# Altium footprint library STM32_Forest_S1.PcbLib: 1 footprints
Each footprint in its own frame and in the unit in brackets; x right, y up, seen from the top. Pads: shape width x height; smd on the part's side, far side on the other; paste and mask are expansions set on the pad; w line width, h text height; cw(c..) or ccw(c..) is an arc to the next point about the centre after c.
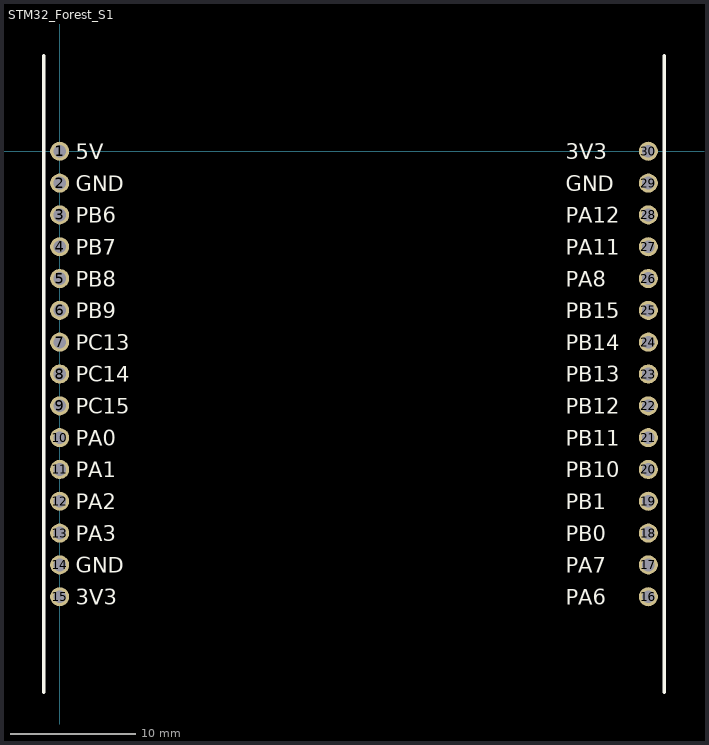
[diagram p0: the footprint, top view; thin cyan lines are the x and y axes]

## STM32_Forest_S1 [mil]
pads (30):
  round 60 hole 40: 1(0,0) 2(0,-100) 3(0,-200) 4(0,-300) 5(0,-400) 6(0,-500) 7(0,-600) 8(0,-700) 9(0,-800) 10(0,-900) 11(0,-1000) 12(0,-1100) 13(0,-1200) 14(0,-1300) 15(0,-1400) 16(1850,-1400) 17(1850,-1300) 18(1850,-1200) 19(1850,-1100) 20(1850,-1000) 21(1850,-900) 22(1850,-800) 23(1850,-700) 24(1850,-600) 25(1850,-500) 26(1850,-400) 27(1850,-300) 28(1850,-200) 29(1850,-100) 30(1850,0)
Top Overlay:
  lines w10: -50,-1700 -50,0 -50,300 ; 1900,-1700 1900,300
  text "5V" at 50,-25 h48
  text "GND" at 50,-125 h48
  text "PB6" at 50,-225 h48
  text "PB7" at 50,-325 h48
  text "PB8" at 50,-425 h48
  text "PB9" at 50,-525 h48
  text "PC13" at 50,-625 h48
  text "PC14" at 50,-725 h48
  text "PC15" at 50,-825 h48
  text "PA0" at 50,-925 h48
  text "PA1" at 50,-1025 h48
  text "PA2" at 50,-1125 h48
  text "PA3" at 50,-1225 h48
  text "GND" at 50,-1325 h48
  text "3V3" at 50,-1425 h48
  text "PA6" at 1590,-1425 h48
  text "PA7" at 1590,-1325 h48
  text "PB0" at 1590,-1225 h48
  text "PB1" at 1590,-1125 h48
  text "PB10" at 1590,-1025 h48
  text "PB11" at 1590,-925 h48
  text "PB12" at 1590,-825 h48
  text "PB13" at 1590,-725 h48
  text "PB14" at 1590,-625 h48
  text "PB15" at 1590,-525 h48
  text "PA8" at 1590,-425 h48
  text "PA11" at 1590,-325 h48
  text "PA12" at 1590,-225 h48
  text "GND" at 1590,-125 h48
  text "3V3" at 1590,-25 h48